# EAGLE library part STM32F40X (library jhbruhn-mcu)
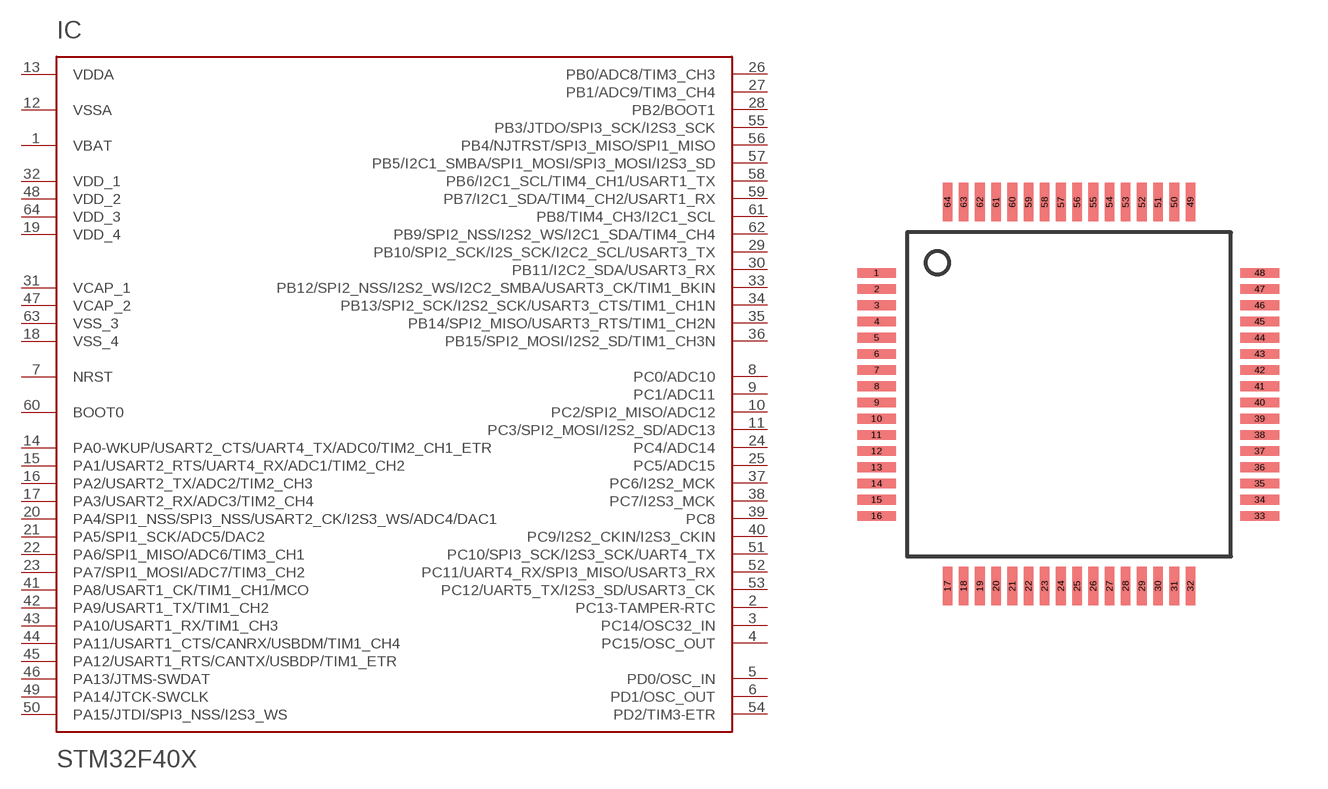
[diagram p3: symbol with the pads of TQFP-10X10-64; footprint TQFP-10X10-64]

Designator prefix IC

## STM32F40X  [TQFP-10X10-64]
1  VBAT  pwr
2  PC13-TAMPER-RTC
3  PC14/OSC32_IN
4  PC15/OSC_OUT
5  PD0/OSC_IN
6  PD1/OSC_OUT
7  NRST
8  PC0/ADC10
9  PC1/ADC11
10  PC2/SPI2_MISO/ADC12
11  PC3/SPI2_MOSI/I2S2_SD/ADC13
12  VSSA  pwr
13  VDDA  pwr
14  PA0-WKUP/USART2_CTS/UART4_TX/ADC0/TIM2_CH1_ETR
15  PA1/USART2_RTS/UART4_RX/ADC1/TIM2_CH2
16  PA2/USART2_TX/ADC2/TIM2_CH3
17  PA3/USART2_RX/ADC3/TIM2_CH4
18  VSS_4  pwr
19  VDD_4  pwr
20  PA4/SPI1_NSS/SPI3_NSS/USART2_CK/I2S3_WS/ADC4/DAC1
21  PA5/SPI1_SCK/ADC5/DAC2
22  PA6/SPI1_MISO/ADC6/TIM3_CH1
23  PA7/SPI1_MOSI/ADC7/TIM3_CH2
24  PC4/ADC14
25  PC5/ADC15
26  PB0/ADC8/TIM3_CH3
27  PB1/ADC9/TIM3_CH4
28  PB2/BOOT1
29  PB10/SPI2_SCK/I2S_SCK/I2C2_SCL/USART3_TX
30  PB11/I2C2_SDA/USART3_RX
31  VCAP_1  pwr
32  VDD_1  pwr
33  PB12/SPI2_NSS/I2S2_WS/I2C2_SMBA/USART3_CK/TIM1_BKIN
34  PB13/SPI2_SCK/I2S2_SCK/USART3_CTS/TIM1_CH1N
35  PB14/SPI2_MISO/USART3_RTS/TIM1_CH2N
36  PB15/SPI2_MOSI/I2S2_SD/TIM1_CH3N
37  PC6/I2S2_MCK
38  PC7/I2S3_MCK
39  PC8
40  PC9/I2S2_CKIN/I2S3_CKIN
41  PA8/USART1_CK/TIM1_CH1/MCO
42  PA9/USART1_TX/TIM1_CH2
43  PA10/USART1_RX/TIM1_CH3
44  PA11/USART1_CTS/CANRX/USBDM/TIM1_CH4
45  PA12/USART1_RTS/CANTX/USBDP/TIM1_ETR
46  PA13/JTMS-SWDAT
47  VCAP_2  pwr
48  VDD_2  pwr
49  PA14/JTCK-SWCLK
50  PA15/JTDI/SPI3_NSS/I2S3_WS
51  PC10/SPI3_SCK/I2S3_SCK/UART4_TX
52  PC11/UART4_RX/SPI3_MISO/USART3_RX
53  PC12/UART5_TX/I2S3_SD/USART3_CK
54  PD2/TIM3-ETR
55  PB3/JTDO/SPI3_SCK/I2S3_SCK
56  PB4/NJTRST/SPI3_MISO/SPI1_MISO
57  PB5/I2C1_SMBA/SPI1_MOSI/SPI3_MOSI/I2S3_SD
58  PB6/I2C1_SCL/TIM4_CH1/USART1_TX
59  PB7/I2C1_SDA/TIM4_CH2/USART1_RX
60  BOOT0
61  PB8/TIM4_CH3/I2C1_SCL
62  PB9/SPI2_NSS/I2S2_WS/I2C1_SDA/TIM4_CH4
63  VSS_3  pwr
64  VDD_3  pwr

## Footprint TQFP-10X10-64 (pad centres in mm)
smd 1.2 x 0.3: 1 -5.936,3.75; 2 -5.936,3.25; 3 -5.936,2.75; 4 -5.936,2.25; 5 -5.936,1.75; 6 -5.936,1.25; 7 -5.936,0.75; 8 -5.936,0.25; 9 -5.936,-0.25; 10 -5.936,-0.75; 11 -5.936,-1.25; 12 -5.936,-1.75; 13 -5.936,-2.25; 14 -5.936,-2.75; 15 -5.936,-3.25; 16 -5.936,-3.75; 33 5.886,-3.75; 34 5.886,-3.25; 35 5.886,-2.75; 36 5.886,-2.25; 37 5.886,-1.75; 38 5.886,-1.25; 39 5.886,-0.75; 40 5.886,-0.25; 41 5.886,0.25; 42 5.886,0.75; 43 5.886,1.25; 44 5.886,1.75; 45 5.886,2.25; 46 5.886,2.75; 47 5.886,3.25; 48 5.886,3.75
smd 0.3 x 1.2: 17 -3.75,-5.911; 18 -3.25,-5.911; 19 -2.75,-5.911; 20 -2.25,-5.911; 21 -1.75,-5.911; 22 -1.25,-5.911; 23 -0.75,-5.911; 24 -0.25,-5.911; 25 0.25,-5.911; 26 0.75,-5.911; 27 1.25,-5.911; 28 1.75,-5.911; 29 2.25,-5.911; 30 2.75,-5.911; 31 3.25,-5.911; 32 3.75,-5.911; 49 3.75,5.936; 50 3.25,5.936; 51 2.75,5.936; 52 2.25,5.936; 53 1.75,5.936; 54 1.25,5.936; 55 0.75,5.936; 56 0.25,5.936; 57 -0.25,5.936; 58 -0.75,5.936; 59 -1.25,5.936; 60 -1.75,5.936; 61 -2.25,5.936; 62 -2.75,5.936; 63 -3.25,5.936; 64 -3.75,5.936